# Altium footprint library PCBs.PcbLib: 1 footprints
Each footprint in its own frame and in the unit in brackets; x right, y up, seen from the top. Pads: shape width x height; smd on the part's side, far side on the other; paste and mask are expansions set on the pad; w line width, h text height; cw(c..) or ccw(c..) is an arc to the next point about the centre after c.
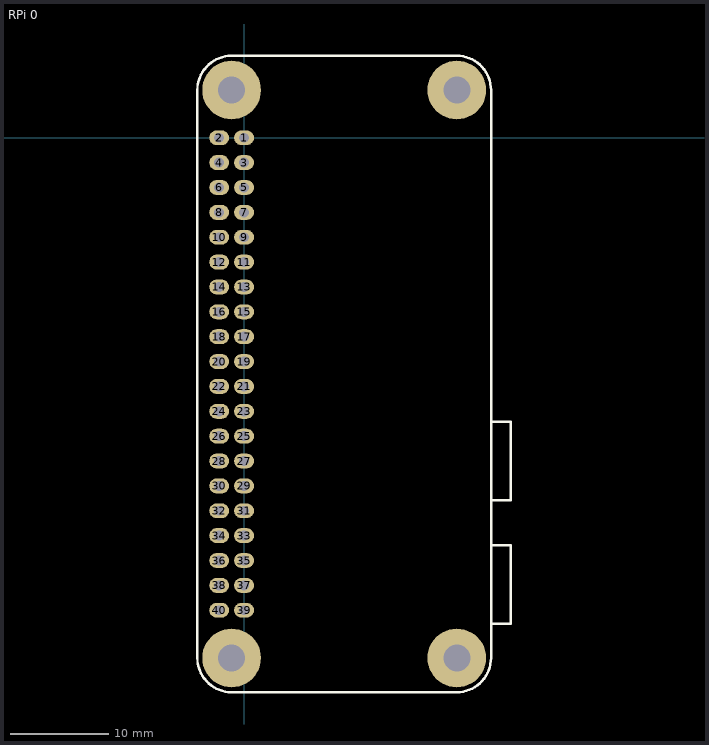
[diagram p0: the footprint, top view; thin cyan lines are the x and y axes]

## RPi 0 [mil] "Footprint for a Rapsberry Pi 0/ 0W"
pads (45):
  oval 80x60 hole 40: 1(0,0) 2(-100,0) 2(-100,0) 3(0,-100) 4(-100,-100) 5(0,-200) 6(-100,-200) 7(0,-300) 8(-100,-300) 9(0,-400) 10(-100,-400) 11(0,-500) 12(-100,-500) 13(0,-600) 14(-100,-600) 15(0,-700) 16(-100,-700) 17(0,-800) 18(-100,-800) 19(0,-900) 20(-100,-900) 21(0,-1000) 22(-100,-1000) 23(0,-1100) 24(-100,-1100) 25(0,-1200) 26(-100,-1200) 27(0,-1300) 28(-100,-1300) 29(0,-1400) 30(-100,-1400) 31(0,-1500) 32(-100,-1500) 33(0,-1600) 34(-100,-1600) 35(0,-1700) 36(-100,-1700) 37(0,-1800) 38(-100,-1800) 39(0,-1900) 40(-100,-1900)
  round 236.22 hole 108.27 unplated: ""(-50,-2091.73) ""(-50,191.73) ""(855.51,-2091.73) ""(855.51,191.73)
Top Overlay:
  lines w10: 993.31,-1953.94 1072.05,-1953.94 1072.05,-1638.98 993.31,-1638.98 ; 993.31,-1457.87 1072.05,-1457.87 1072.05,-1142.91 993.31,-1142.91 ; -187.8,-2091.73 ccw(c-50,-2091.73) -50,-2229.53 855.51,-2229.53 ccw(c855.51,-2091.73) 993.31,-2091.73 993.31,191.73 ccw(c855.51,191.73) 855.51,329.53 -50,329.53 ccw(c-50,191.73) -187.8,191.73 -187.8,-2091.73
3D body: height 433.07, standoff 0, extent -150,-1950 50,50
3D body: height 433.07, standoff 0, extent -168.1,-2209.84 68.12,-1973.62
3D body: height 433.07, standoff 0, extent 737.41,-2209.83 973.63,-1973.62
3D body: height 433.07, standoff 0, extent 737.41,73.63 973.63,309.85
3D body: height 433.07, standoff 0, extent -168.11,73.63 68.11,309.84
3D body "RapberryPiZero.STEP": height 468.64, standoff 293.44, extent -176.38,-2229.33 1053.15,329.72